# Altium schematic symbol library Lightsaber Schematic Library.SchLib: 24 symbols
Pins are listed as number, name and electrical type; pins without a type are passive.

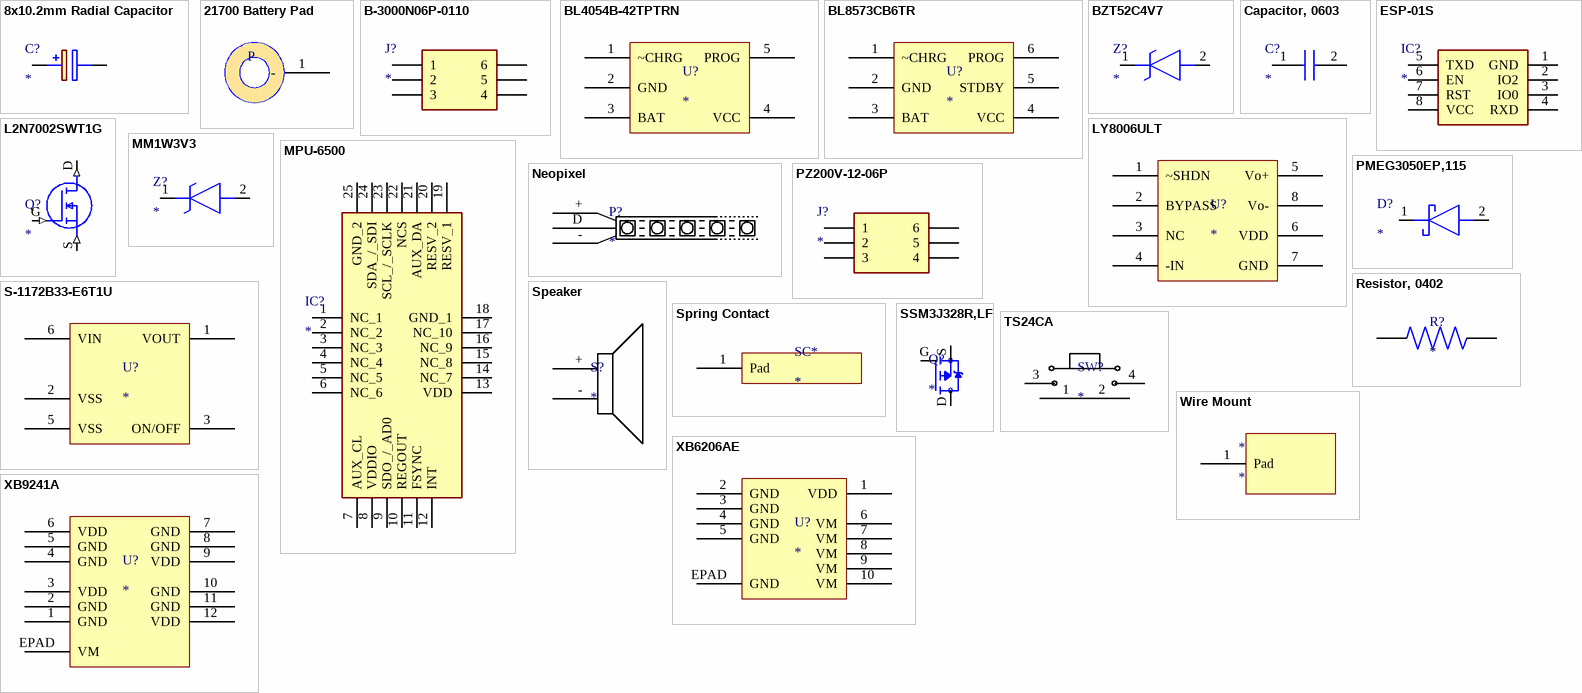
[diagram p0: symbols 8x10.2mm Radial Capacitor to XB9241A]

## 8x10.2mm Radial Capacitor
designator C?
Capacitor Polarised; Manufacturer_Name: Cinch Connectivity Solutions; Manufacturer_Part_Number: 107CKS035M; Datasheet Link: http://www.farnell.com/datasheets/1912641.pdf; Height: 12.5mm
footprint 8x10.2mm Radial Capacitor
pins: 1 +, 2 -

## 21700 Battery Pad
designator P
footprint 21700 Battery Pad
pins: 1 -

## B-3000N06P-0110
designator J?
Connector; Manufacturer_Name: Amphenol; Manufacturer_Part_Number: 54202-G08-03; Datasheet Link: https://cdn.amphenol-icc.com/media/wysiwyg/files/drawing/54202.pdf; Height: 9.85mm; Arrow Part Number: 54202-G08-03; Arrow Price/Stock: https://www.arrow.com/en/products/54202-g08-03/amphenol-fci; Mouser Part Number: 649-54202-G08-03; Mouser Price/Stock: https://www.mouser.co.uk/ProductDetail/Amphenol-FCI/54202-G08-03?qs=GN3JspNYOhaVPFh0SDYuCQ%3D%3D
footprint 2mm 2x3 Header
pins: 1, 2, 3, 4, 5, 6

## BL4054B-42TPTRN
designator U?
footprint TSOT23-5
pins: 1 ~CHRG, 2 GND, 3 BAT, 4 VCC, 5 PROG

## BL8573CB6TR
designator U?
pins: 1 ~CHRG, 2 GND, 3 BAT, 4 VCC, 5 STDBY, 6 PROG

## BZT52C4V7
designator Z?
Zener Diode; Manufacturer_Name: Nexperia; Manufacturer_Part_Number: BZT52-B5V1J; Datasheet Link: https://assets.nexperia.com/documents/data-sheet/BZT52-B_SER.pdf; Height: 1.3mm; Mouser Part Number: 771-BZT52-B5V1J; Mouser Price/Stock: https://www.mouser.co.uk/ProductDetail/Nexperia/BZT52-B5V1J/?qs=W0yvOO0ixfGU2vzMfcQu3g%3D%3D; Arrow Part Number: BZT52-B5V1J; Arrow Price/Stock: https://www.arrow.com/en/products/bzt52-b5v1j/nexperia
footprint SOD-123
pins: 1 K, 2 A

## Capacitor, 0603
designator C?
Manufacturer_Name: AVX; Manufacturer_Part_Number: 04025A100BAT2A; Datasheet Link: http://www.mouser.com/catalog/supplier/library/pdf/AVXSurfaceMountCeramic.pdf; Height: 0.56mm; Arrow Part Number: 04025A100BAT2A; Arrow Price/Stock: https://www.arrow.com/en/products/04025a100bat2a/avx; Mouser Part Number: 581-04025A100B; Mouser Price/Stock: https://www.mouser.com/Search/Refine.aspx?Keyword=581-04025A100B
footprint CAPC1005X56N
pins: 1, 2

## ESP-01S
designator IC?
Integrated Circuit; Manufacturer_Name: Ai-Thinker; Manufacturer_Part_Number: ESP-01; Datasheet Link: http://wiki.ai-thinker.com/_media/esp8266/esp8266_series_modules_user_manual_v1.1.pdf; Height: 2mm
footprint ESP-01
pins: 1 GND, 2 IO2, 3 IO0, 4 RXD, 5 TXD, 6 EN, 7 RST, 8 VCC

## L2N7002SWT1G
designator Q?
MOSFET (N-Channel); Manufacturer_Name: ON Semiconductor; Manufacturer_Part_Number: 2N7000; Datasheet Link: http://www.onsemi.com/pub/Collateral/NDS7002A-D.PDF; Mouser Part Number: 512-2N7000; Mouser Price/Stock: https://www.mouser.co.uk/ProductDetail/ON-Semiconductor/2N7000?qs=FOlmdCx%252BAA2o%2FKZOTk%2F3hg%3D%3D; Arrow Part Number: 2N7000; Arrow Price/Stock: https://www.arrow.com/en/products/2n7000/on-semiconductor
footprint SC-70; pin to pad D>3 G>1 S>2
pins: D (out), G (in), S (in)

## LY8006ULT
designator U?
footprint MSOP-8
pins: 1 ~SHDN, 2 BYPASS, 3 NC, 4 -IN, 5 Vo+, 6 VDD, 7 GND, 8 Vo-

## MM1W3V3
designator Z?
Zener Diode; Manufacturer_Name: Nexperia; Manufacturer_Part_Number: BZT52-B5V1J; Datasheet Link: https://assets.nexperia.com/documents/data-sheet/BZT52-B_SER.pdf; Height: 1.3mm; Mouser Part Number: 771-BZT52-B5V1J; Mouser Price/Stock: https://www.mouser.co.uk/ProductDetail/Nexperia/BZT52-B5V1J/?qs=W0yvOO0ixfGU2vzMfcQu3g%3D%3D; Arrow Part Number: BZT52-B5V1J; Arrow Price/Stock: https://www.arrow.com/en/products/bzt52-b5v1j/nexperia
footprint SOD-123
pins: 1 K, 2 A

## MPU-6500
designator IC?
Integrated Circuit; Manufacturer_Name: TDK; Datasheet Link: https://www.invensense.com/wp-content/uploads/2015/02/MPU-6500-Datasheet2.pdf; Height: 0.95mm; Manufacturer_Part_Number: MPU-6500; Arrow Part Number: MPU-6500; Arrow Price/Stock: https://www.arrow.com/en/products/mpu-6500/invensense; Mouser Part Number: 410-MPU-6500
footprint QFN-24
pins: 1 NC_1, 2 NC_2, 3 NC_3, 4 NC_4, 5 NC_5, 6 NC_6, 7 AUX_CL, 8 VDDIO, 9 SDO_/_AD0, 10 REGOUT, 11 FSYNC, 12 INT, 13 VDD, 14 NC_7, 15 NC_8, 16 NC_9, 17 NC_10, 18 GND_1, 19 RESV_1, 20 RESV_2, 21 AUX_DA, 22 NCS, 23 SCL_/_SCLK, 24 SDA_/_SDI, 25 GND_2

## Neopixel
designator P?
footprint Neopixel Pads
pins: +, -, D

## PMEG3050EP,115
designator D?
Schottky Diode; Manufacturer_Name: Nexperia; Manufacturer_Part_Number: PMEG3050EP,115; Datasheet Link: https://docs-emea.rs-online.com/webdocs/14cd/0900766b814cd012.pdf; Height: 1mm; Arrow Part Number: PMEG3050EP,115; Arrow Price/Stock: https://www.arrow.com/en/products/pmeg3050ep115/nexperia; Mouser Part Number: 771-PMEG3050EP115; Mouser Price/Stock: https://www.mouser.co.uk/ProductDetail/Nexperia/PMEG3050EP115?qs=GcY6OjH1zdmnjQ%2FhUT5aOA%3D%3D
footprint SOD128
pins: 1 K, 2 A

## PZ200V-12-06P
designator J?
Connector; Manufacturer_Name: Amphenol; Manufacturer_Part_Number: 54202-G08-03; Datasheet Link: https://cdn.amphenol-icc.com/media/wysiwyg/files/drawing/54202.pdf; Height: 9.85mm; Arrow Part Number: 54202-G08-03; Arrow Price/Stock: https://www.arrow.com/en/products/54202-g08-03/amphenol-fci; Mouser Part Number: 649-54202-G08-03; Mouser Price/Stock: https://www.mouser.co.uk/ProductDetail/Amphenol-FCI/54202-G08-03?qs=GN3JspNYOhaVPFh0SDYuCQ%3D%3D
footprint 2mm 2x3 Header TH
pins: 1, 2, 3, 4, 5, 6

## Resistor, 0402
designator R?
footprint 0402
pins: 1, 2

## S-1172B33-E6T1U
designator U?
Fixed 5.5V 3.3V 100mV @ 300mA HSOP-6 Dropout Regulators(LDO) RoHS
footprint HSOP-6
pins: 1 VOUT, 2 VSS, 3 ON/OFF, 5 VSS, 6 VIN

## Speaker
designator S?
footprint SPEAKER PADS
pins: +, -

## Spring Contact
designator SC*
footprint Spring Contact
pins: 1 Pad

## SSM3J328R,LF
designator Q?
P-Channel 20V 9.4A (Ta) 2.4W (Ta) Surface Mount 6-MicroFET (2x2); MP: FDMA910PZ; MF: {'manufacturer': u'ON Semiconductor'}; Package: None; Availability: Unavailable; Value: *; Price: None
footprint SOT-23F; pin to pad D>3 G>1 S>2
pins: D, G, S

## TS24CA
designator SW?
footprint TS24CA
pins: 1, 2, 3, 4

## Wire Mount
designator *
footprint Wire Mount
pins: 1 Pad

## XB6206AE
designator U?
footprint DFN3X3-10
pins: 1 VDD, 2 GND, 3 GND, 4 GND, 5 GND, 6 VM, 7 VM, 8 VM, 9 VM, 10 VM, EPAD GND

## XB9241A
designator U?
footprint DFN4x4x0.55-12FC
pins: 1 GND, 2 GND, 3 VDD, 4 GND, 5 GND, 6 VDD, 7 GND, 8 GND, 9 VDD, 10 GND, 11 GND, 12 VDD, EPAD VM